# Altium schematic symbol library Battery.SchLib: 1 symbol
Pins are listed as number, name and electrical type; pins without a type are passive.

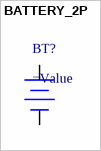
[diagram p0: symbol BATTERY_2P]

## BATTERY_2P
designator BT?
pins: 1 +, 2 -